# EAGLE library part 3006 (library 3006)
Amplifier IC Development Tools I2S 3W Class D Amp Breakout MAX98357A Source: Datasheet <https://cdn-learn.adafruit.com/downloads/pdf/adafruit-max98357-i2s-class-d-mono-amp.pdf>
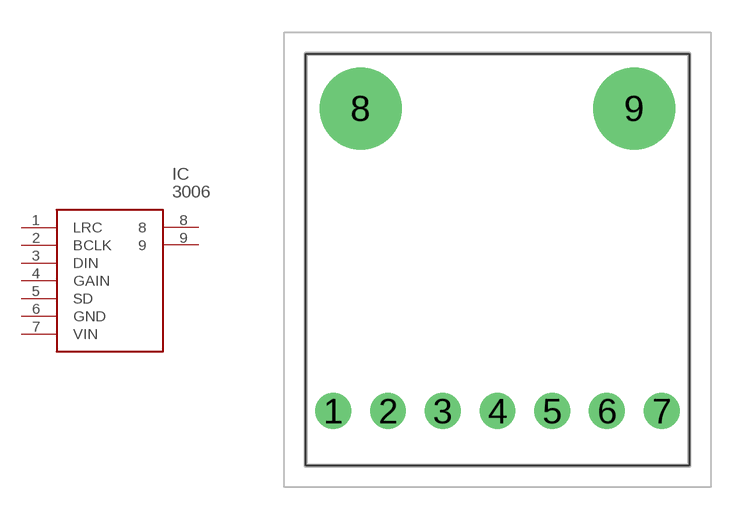
[diagram p0: symbol with the pads of 3006; footprint 3006]

Designator prefix IC

## 3006 (Arrow_Part_Number: 3006; Arrow_Price-Stock: https://www.arrow.com/en/products/3006/adafruit-industries; Description: Amplifier IC Development Tools I2S 3W Class D Amp Breakout MAX98357A; Height: 3mm; Manufacturer_Name: Adafruit; Manufacturer_Part_Number: 3006; Mouser_Part_Number: 485-3006; Mouser_Price-Stock: https://www.mouser.co.uk/ProductDetail/Adafruit/3006?qs=SV%252B0z0o3NTtodS8r%2Ftqo5A%3D%3D)  [3006]
1  LRC
2  BCLK
3  DIN
4  GAIN
5  SD
6  GND
7  VIN
8  8
9  9

## Footprint 3006 (pad centres in mm)
3006
drill 1.11 pad 1.665: 1 -7.62,2.46; 2 -5.08,2.46; 3 -2.54,2.46; 4 0,2.46; 5 2.54,2.46; 6 5.08,2.46; 7 7.62,2.46
drill 2.54 pad 3.81: 8 -6.35,16.51; 9 6.35,16.51